# EAGLE library part 4455-A09 (library con-molex-kk)
RECEPTACAL
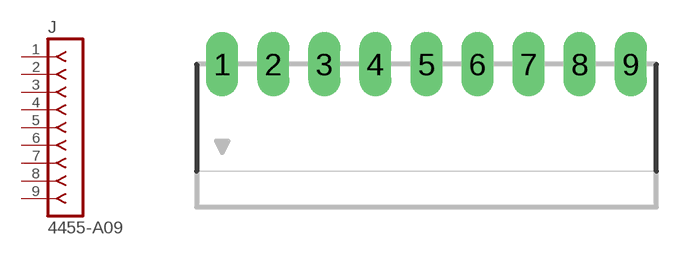
[diagram p96: symbol with the pads of 4455-A09; footprint 4455-A09]

Designator prefix J

## 4455-A09  [4455-A09]
1  1  pas
2  2  pas
3  3  pas
4  4  pas
5  5  pas
6  6  pas
7  7  pas
8  8  pas
9  9  pas

## Footprint 4455-A09 (pad centres in mm)
RECEPTACAL Right Angle, 0.1" pitch
drill 1.067 long: 1 -10.16,0; 2 -7.62,0; 3 -5.08,0; 4 -2.54,0; 5 0,0; 6 2.54,0; 7 5.08,0; 8 7.62,0; 9 10.16,0